# EAGLE library part MCP1826 (library ASL)
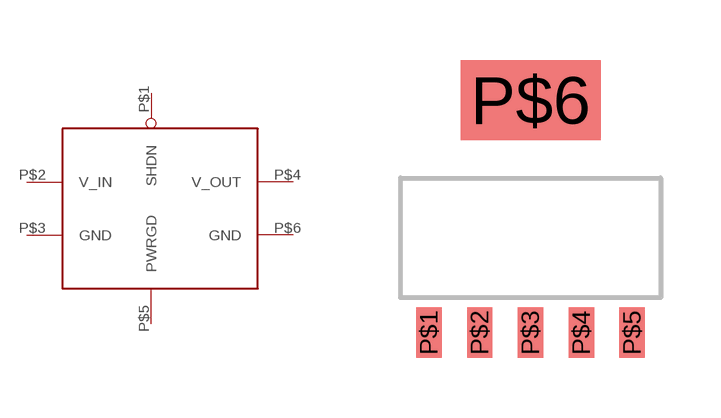
[diagram p27: symbol with the pads of SOT223-5; footprint SOT223-5]

Designator prefix -

## MCP1826  [SOT223-5]
P$1  SHDN  in
P$2  V_IN  pwr
P$3  GND  sup
P$4  V_OUT  out
P$5  PWRGD  oc
P$6  GND  sup

## Footprint SOT223-5 (pad centres in mm)
smd 0.635 x 1.27: P$1 -2.54,-2.625; P$2 -1.27,-2.625; P$3 0,-2.625; P$4 1.27,-2.625; P$5 2.54,-2.625
smd 3.5 x 2: P$6 0,3.2